# EAGLE library part STM32F0-DISCOVERY (library stm32f0discovery)
FEMALE HEADER
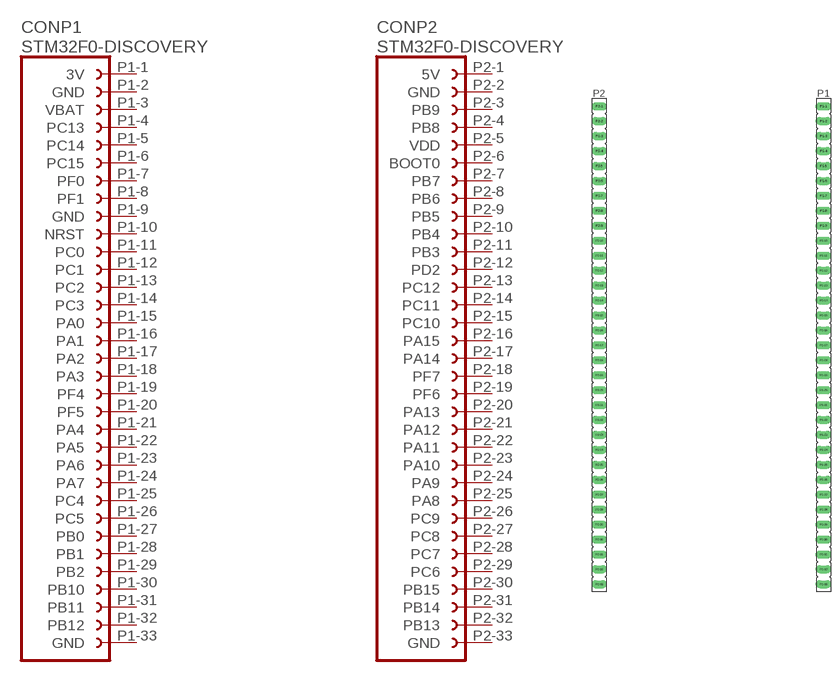
[diagram p0: symbol with the pads of STM32F0-DISCOVERY-CONNECTOR; footprint STM32F0-DISCOVERY-CONNECTOR]

Designator prefix CON; gates P1=STM32F0-DISCOVERY-P1 P2=STM32F0-DISCOVERY-P2

## STM32F0-DISCOVERY (OC_FARNELL: unknown; OC_NEWARK: unknown)  [STM32F0-DISCOVERY-CONNECTOR]
P1-1  P1:3V  pas
P1-2  P1:GND  pas
P1-3  P1:VBAT  pas
P1-4  P1:PC13  pas
P1-5  P1:PC14  pas
P1-6  P1:PC15  pas
P1-7  P1:PF0  pas
P1-8  P1:PF1  pas
P1-9  P1:GND  pas
P1-10  P1:NRST  pas
P1-11  P1:PC0  pas
P1-12  P1:PC1  pas
P1-13  P1:PC2  pas
P1-14  P1:PC3  pas
P1-15  P1:PA0  pas
P1-16  P1:PA1  pas
P1-17  P1:PA2  pas
P1-18  P1:PA3  pas
P1-19  P1:PF4  pas
P1-20  P1:PF5  pas
P1-21  P1:PA4  pas
P1-22  P1:PA5  pas
P1-23  P1:PA6  pas
P1-24  P1:PA7  pas
P1-25  P1:PC4  pas
P1-26  P1:PC5  pas
P1-27  P1:PB0  pas
P1-28  P1:PB1  pas
P1-29  P1:PB2  pas
P1-30  P1:PB10  pas
P1-31  P1:PB11  pas
P1-32  P1:PB12  pas
P1-33  P1:GND  pas
P2-1  P2:5V  pas
P2-2  P2:GND  pas
P2-3  P2:PB9  pas
P2-4  P2:PB8  pas
P2-5  P2:VDD  pas
P2-6  P2:BOOT0  pas
P2-7  P2:PB7  pas
P2-8  P2:PB6  pas
P2-9  P2:PB5  pas
P2-10  P2:PB4  pas
P2-11  P2:PB3  pas
P2-12  P2:PD2  pas
P2-13  P2:PC12  pas
P2-14  P2:PC11  pas
P2-15  P2:PC10  pas
P2-16  P2:PA15  pas
P2-17  P2:PA14  pas
P2-18  P2:PF7  pas
P2-19  P2:PF6  pas
P2-20  P2:PA13  pas
P2-21  P2:PA12  pas
P2-22  P2:PA11  pas
P2-23  P2:PA10  pas
P2-24  P2:PA9  pas
P2-25  P2:PA8  pas
P2-26  P2:PC9  pas
P2-27  P2:PC8  pas
P2-28  P2:PC7  pas
P2-29  P2:PC6  pas
P2-30  P2:PB15  pas
P2-31  P2:PB14  pas
P2-32  P2:PB13  pas
P2-33  P2:GND  pas

## Footprint STM32F0-DISCOVERY-CONNECTOR (pad centres in mm)
FEMALE HEADER
drill 0.813 long: P1-1 19.05,40.64; P1-2 19.05,38.1; P1-3 19.05,35.56; P1-4 19.05,33.02; P1-5 19.05,30.48; P1-6 19.05,27.94; P1-7 19.05,25.4; P1-8 19.05,22.86; P1-9 19.05,20.32; P1-10 19.05,17.78; P1-11 19.05,15.24; P1-12 19.05,12.7; P1-13 19.05,10.16; P1-14 19.05,7.62; P1-15 19.05,5.08; P1-16 19.05,2.54; P1-17 19.05,0; P1-18 19.05,-2.54; P1-19 19.05,-5.08; P1-20 19.05,-7.62; P1-21 19.05,-10.16; P1-22 19.05,-12.7; P1-23 19.05,-15.24; P1-24 19.05,-17.78; P1-25 19.05,-20.32; P1-26 19.05,-22.86; P1-27 19.05,-25.4; P1-28 19.05,-27.94; P1-29 19.05,-30.48; P1-30 19.05,-33.02; P1-31 19.05,-35.56; P1-32 19.05,-38.1; P1-33 19.05,-40.64; P2-1 -19.05,40.64; P2-2 -19.05,38.1; P2-3 -19.05,35.56; P2-4 -19.05,33.02; P2-5 -19.05,30.48; P2-6 -19.05,27.94; P2-7 -19.05,25.4; P2-8 -19.05,22.86; P2-9 -19.05,20.32; P2-10 -19.05,17.78; P2-11 -19.05,15.24; P2-12 -19.05,12.7; P2-13 -19.05,10.16; P2-14 -19.05,7.62; P2-15 -19.05,5.08; P2-16 -19.05,2.54; P2-17 -19.05,0; P2-18 -19.05,-2.54; P2-19 -19.05,-5.08; P2-20 -19.05,-7.62; P2-21 -19.05,-10.16; P2-22 -19.05,-12.7; P2-23 -19.05,-15.24; P2-24 -19.05,-17.78; P2-25 -19.05,-20.32; P2-26 -19.05,-22.86; P2-27 -19.05,-25.4; P2-28 -19.05,-27.94; P2-29 -19.05,-30.48; P2-30 -19.05,-33.02; P2-31 -19.05,-35.56; P2-32 -19.05,-38.1; P2-33 -19.05,-40.64